# EAGLE library part DPDTSWITCH (library shit)
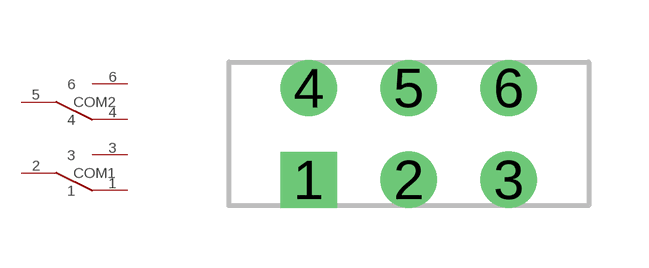
[diagram p9: symbol with the pads of JS202011; footprint JS202011]

Designator prefix -

## DPDTSWITCH  [JS202011]
1  1
2  COM1
3  3
4  4
5  COM2
6  6

## Footprint JS202011 (pad centres in mm)
drill 0.9 square: 1 -2.5,-1.15
drill 0.9: 2 0,-1.15; 3 2.5,-1.15; 4 -2.5,1.15; 5 0,1.15; 6 2.5,1.15